# Altium schematic symbol library XAL1580-741MED.SchLib: 1 symbol
Pins are listed as number, name and electrical type; pins without a type are passive.

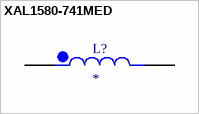
[diagram p0: symbol XAL1580-741MED]

## XAL1580-741MED
designator L?
MP: XAL1580-741MED; Package: None; Price: None; Value: *; Availability: Unavailable
footprint IND_XAL1580-741MED
pins: 1, 2